# Altium footprint library ADE1.PcbLib: 1 footprints
Each footprint in its own frame and in the unit in brackets; x right, y up, seen from the top. Pads: shape width x height; smd on the part's side, far side on the other; paste and mask are expansions set on the pad; w line width, h text height; cw(c..) or ccw(c..) is an arc to the next point about the centre after c.
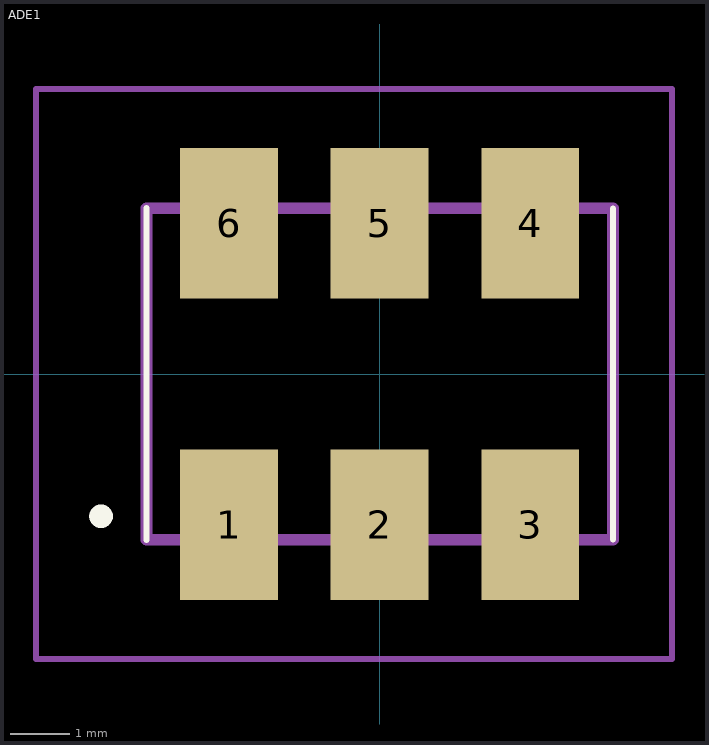
[diagram p0: the footprint, top view; thin cyan lines are the x and y axes]

## ADE1 [mm]
pads (6):
  rect 1.65x2.54 smd: 1(-2.54,-2.54) 2(0,-2.54) 3(2.54,-2.54) 4(2.54,2.54) 5(0,2.54) 6(-2.54,2.54)
Top Overlay:
  lines w0.1: -3.935,-2.8 -3.935,2.8 ; 3.935,-2.795 3.935,2.795
  lines w0.2: -4.8,-2.4 -4.8,-2.4 ; -4.8,-2.4 ccw(c-4.7,-2.4) -4.6,-2.4 ; -4.8,-2.4 cw(c-4.7,-2.4) -4.6,-2.4 ; -4.6,-2.4 -4.6,-2.4
Mechanical 15:
  lines w0.2: -3.935,-2.795 3.935,-2.795 3.935,2.795 -3.935,2.795 -3.935,-2.795
Mechanical 20:
  lines w0.1: -5.8,-4.81 4.935,-4.81 4.935,4.81 -5.8,4.81 -5.8,-4.81